# EAGLE library part 74LS06 (library F030NG)
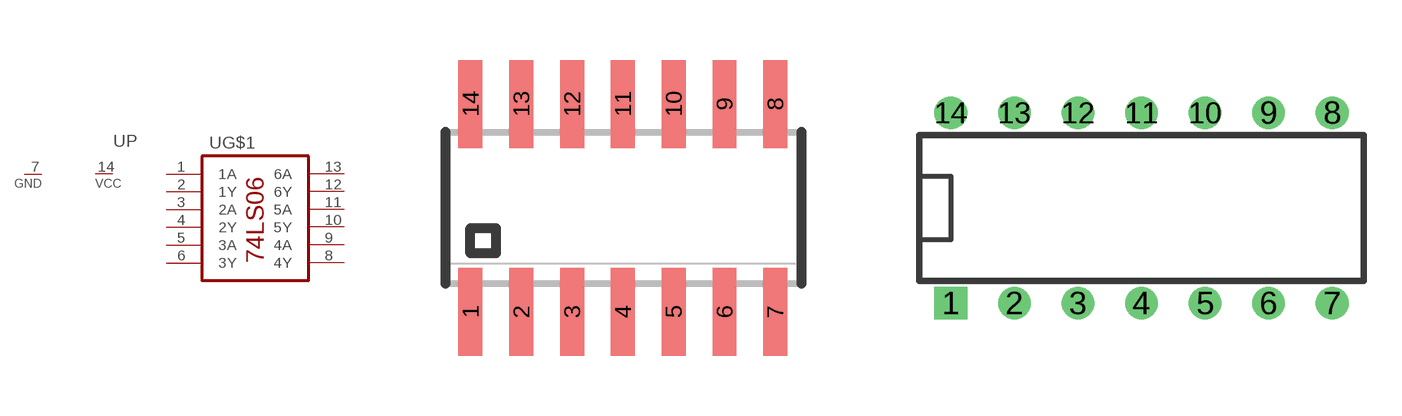
[diagram p19: symbol with the pads of SO14; footprints SO14, DIL14]

Designator prefix U; gates G$1=74LS06 P=1VCC_1GND

## 74LS06D  [SO14]
1  G$1:1A  in
2  G$1:1Y  out
3  G$1:2A  in
4  G$1:2Y  out
5  G$1:3A  in
6  G$1:3Y  out
7  P:GND  pwr
8  G$1:4Y  out
9  G$1:4A  in
10  G$1:5Y  out
11  G$1:5A  in
12  G$1:6Y  out
13  G$1:6A  in
14  P:VCC  pwr

## 74LS06N  [DIL14]
Pads as for SO14

## 74LS06DBR  [SSOP16]
Pads as for SO14

## Footprint SO14 (pad centres in mm)
SMALL OUTLINE INTEGRATED CIRCUIT body 3.9 mm/JEDEC MS-012AA
smd 0.6 x 2.2: 1 -3.81,-2.6; 2 -2.54,-2.6; 3 -1.27,-2.6; 4 0,-2.6; 5 1.27,-2.6; 6 2.54,-2.6; 7 3.81,-2.6; 8 3.81,2.6; 9 2.54,2.6; 10 1.27,2.6; 11 0,2.6; 12 -1.27,2.6; 13 -2.54,2.6; 14 -3.81,2.6

## Footprint DIL14 (pad centres in mm)
Dual In Line Package
drill 0.8 square: 1 -7.62,-3.81
drill 0.8: 2 -5.08,-3.81; 3 -2.54,-3.81; 4 0,-3.81; 5 2.54,-3.81; 6 5.08,-3.81; 7 7.62,-3.81; 8 7.62,3.81; 9 5.08,3.81; 10 2.54,3.81; 11 0,3.81; 12 -2.54,3.81; 13 -5.08,3.81; 14 -7.62,3.81

## Footprint SSOP16 (pad centres in mm)
Shrink Small Outline Plastic 16
smd 0.356 x 1.727: 1 -2.275,-3.175; 2 -1.625,-3.175; 3 -0.975,-3.175; 4 -0.325,-3.175; 5 0.325,-3.175; 6 0.975,-3.175; 7 1.625,-3.175; 8 2.275,-3.175; 9 2.275,3.175; 10 1.625,3.175; 11 0.975,3.175; 12 0.325,3.175; 13 -0.325,3.175; 14 -0.975,3.175; 15 -1.625,3.175; 16 -2.275,3.175